# Altium footprint library Keyboard_parts.PcbLib: 22 footprints (part 2 of 2)
Each footprint in its own frame and in the unit in brackets; x right, y up, seen from the top. Pads: shape width x height; smd on the part's side, far side on the other; paste and mask are expansions set on the pad; w line width, h text height; cw(c..) or ccw(c..) is an arc to the next point about the centre after c.
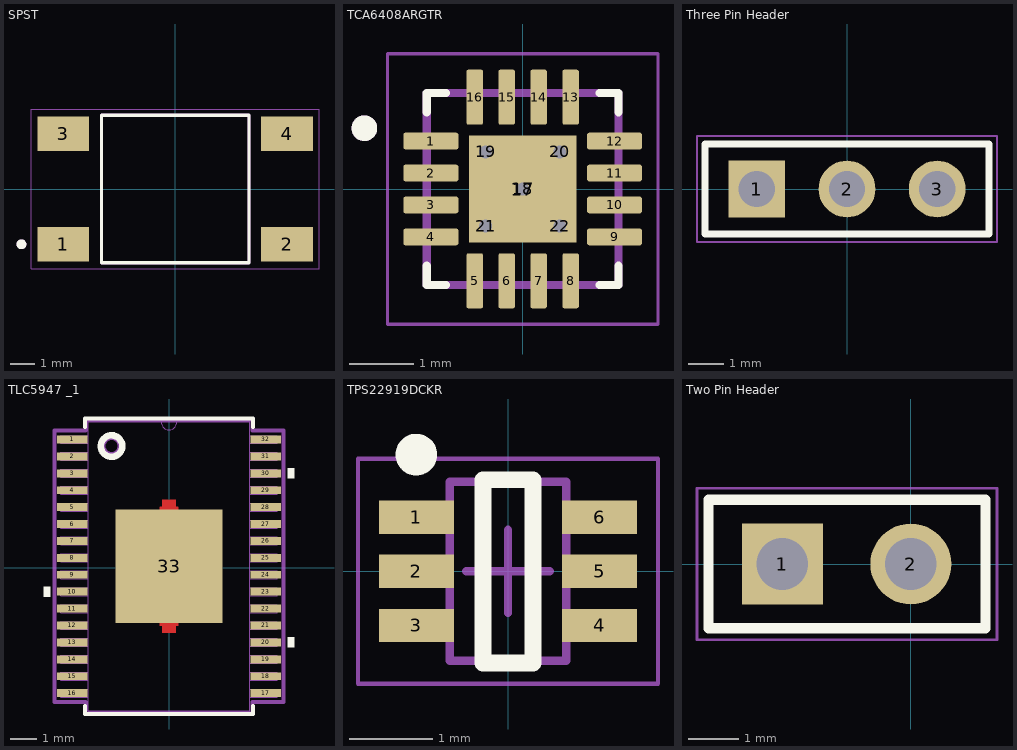
[diagram p1: the footprints below, top view; thin cyan lines are the x and y axes]

## SPST [mm]
pads (4):
  rect 2.1x1.4 smd: 1(-4.55,-2.25) 2(4.55,-2.25) 3(-4.55,2.25) 4(4.55,2.25)
Top Overlay:
  circle w0.2: c-6.25,-2.25 r0.1
  lines w0.127: -3,-3 3,-3 3,3 -3,3 -3,-3
Mechanical 13:
  circle w0.2: c-6.25,-2.25 r0.1
  lines w0.127: -3,-3 -3,3 3,3 3,-3 -3,-3
Mechanical 15:
  lines w0.05: -5.85,-3.25 -5.85,3.25 5.85,3.25 5.85,-3.25 -5.85,-3.25
3D body "step_temp.STEP": height 4.4, standoff 0, extent -5,-3 5,3

## TCA6408ARGTR [mm] "IC XPNDR 400KHZ I2C SMBUS 16VQFN"
pads (22):
  rrect25% 0.86x0.26 smd: 1(-1.435,0.75) 2(-1.435,0.25) 3(-1.435,-0.25) 4(-1.435,-0.75) 9(1.435,-0.75) 10(1.435,-0.25) 11(1.435,0.25) 12(1.435,0.75)
  rrect25% 0.26x0.86 smd: 5(-0.75,-1.435) 6(-0.25,-1.435) 7(0.25,-1.435) 8(0.75,-1.435) 13(0.75,1.435) 14(0.25,1.435) 15(-0.25,1.435) 16(-0.75,1.435)
  rect 1.68x1.68 smd paste-2: 17(0,0)
  round 0.4 hole 0.2 mask+0: 18(0,0) 19(-0.58,0.58) 20(0.58,0.58) 21(-0.58,-0.58) 22(0.58,-0.58)
Top Overlay:
  circle w0.2: c-2.475,0.95 r0.1
  lines w0.127: -1.5,-1.2 -1.5,-1.5 -1.2,-1.5 ; -1.5,1.2 -1.5,1.5 -1.2,1.5 ; 1.2,-1.5 1.5,-1.5 1.5,-1.2 ; 1.2,1.5 1.5,1.5 1.5,1.2
Top Paste:
  region: 0.53,-0.53 -0.53,-0.53 -0.53,0.53 0.53,0.53
Mechanical 13:
  circle w0.2: c-2.475,0.95 r0.1
  lines w0.127: -1.5,-1.5 1.5,-1.5 1.5,1.5 -1.5,1.5 -1.5,-1.5
  text ".Designator" at -1.4,-1.233 h0.5
Mechanical 15:
  lines w0.05: -2.115,-2.115 2.115,-2.115 2.115,2.115 -2.115,2.115 -2.115,-2.115
3D body "step_temp.STEP": height 1, standoff 0, extent -1.5,-1.5 1.5,1.5

## Three Pin Header [mm]
pads (3):
  rect 1.6x1.6 hole 1.02: 1(-2.54,0)
  round 1.6 hole 1.02: 2(0,0) 3(2.54,0)
Top Overlay:
  lines w0.2: -4,-1.27 -4,1.27 4,1.27 4,-1.27 -4,-1.27
Mechanical 13:
  lines w0.1: -4,-1.27 -4,1.27 4,1.27 4,-1.27 -4,-1.27
  text ".Designator" at -1.524,-0.635 h1.3
Mechanical 15:
  lines w0.05: -4.225,-1.495 -4.225,1.495 4.225,1.495 4.225,-1.495 -4.225,-1.495
  lines w0.1: -0.5,0 0.5,0 ; 0,-0.5 0,0.5
3D body "User Library-Header_Male_3Pin.STEP": height 8.54, standoff -3, extent -3.81,-1.27 3.81,1.22

## TLC5947 _1 [mil] "LED Driver IC 24 Output Linear Shift Register Dimming 30mA 32-HTSSOP"
pads (33):
  rect 46x12 smd paste+0 mask+0: 1(-146.5,193.93) 2(-146.5,168.34) 3(-146.5,142.75) 4(-146.5,117.16) 5(-146.5,91.57) 6(-146.5,65.98) 7(-146.5,40.39) 8(-146.5,14.8) 9(-146.5,-10.8) 10(-146.5,-36.39) 11(-146.5,-61.98) 12(-146.5,-87.57) 13(-146.5,-113.16) 14(-146.5,-138.75) 15(-146.5,-164.34) 16(-146.5,-189.93) 17(146.5,-189.93) 18(146.5,-164.34) 19(146.5,-138.75) 20(146.5,-113.16) 21(146.5,-87.57) 22(146.5,-61.98) 23(146.5,-36.39) 24(146.5,-10.8) 25(146.5,14.8) 26(146.5,40.39) 27(146.5,65.98) 28(146.5,91.57) 29(146.5,117.16) 30(146.5,142.75) 31(146.5,168.34) 32(146.5,193.93)
  rect 161.81x171.65 smd paste-433.07 mask+0: 33(0,2)
Top Layer:
  region: 13.78,-83.83 -13.78,-83.83 -13.78,-87.76 -9.84,-87.76 -9.84,-98.39 9.84,-98.39 9.84,-87.76 13.78,-87.76
  region: 13.78,87.83 -13.78,87.83 -13.78,91.76 -9.84,91.76 -9.84,102.39 9.84,102.39 9.84,91.76 13.78,91.76
Top Overlay:
  circle w10: c-87,184 r16.28
  region: 179.5,150.25 189.5,150.25 189.5,135.25 179.5,135.25
  region: 179.5,-105.66 189.5,-105.66 189.5,-120.66 179.5,-120.66
  region: -179.5,-28.89 -189.5,-28.89 -189.5,-43.89 -179.5,-43.89
  lines w6: -127,-209.03 -127,-221.5 127,-221.5 127,-209.03 ; -127,213.03 -127,225.5 127,225.5 127,213.03
Top Paste:
  region: 76.97,-30.55 30.91,-30.55 30.91,-79.89 76.97,-79.89
  region: 76.97,26.67 30.91,26.67 30.91,-22.67 76.97,-22.67
  region: 76.97,83.89 30.91,83.89 30.91,34.55 76.97,34.55
  region: 23.03,-30.55 -23.03,-30.55 -23.03,-79.89 23.03,-79.89
  region: 23.03,26.67 -23.03,26.67 -23.03,-22.67 23.03,-22.67
  region: 23.03,83.89 -23.03,83.89 -23.03,34.55 23.03,34.55
  region: -30.91,-30.55 -76.97,-30.55 -76.97,-79.89 -30.91,-79.89
  region: -30.91,26.67 -76.97,26.67 -76.97,-22.67 -30.91,-22.67
  region: -30.91,83.89 -76.97,83.89 -76.97,34.55 -30.91,34.55
Top Solder:
  region: 13.78,-83.83 -13.78,-83.83 -13.78,-87.76 -9.84,-87.76 -9.84,-98.39 9.84,-98.39 9.84,-87.76 13.78,-87.76
  region: 13.78,87.83 -13.78,87.83 -13.78,91.76 -9.84,91.76 -9.84,102.39 9.84,102.39 9.84,91.76 13.78,91.76
Mechanical 13:
  circle w10: c-87,184 r14.21
  lines w0: -12,220.5 ccw(c0,220.5) 12,220.5
  lines w1: -163.5,-195.93 -122,-195.93 -122,-183.93 -163.5,-183.93 -163.5,-195.93 ; -163.5,-170.34 -122,-170.34 -122,-158.34 -163.5,-158.34 -163.5,-170.34 ; -163.5,-144.75 -122,-144.75 -122,-132.75 -163.5,-132.75 -163.5,-144.75 ; -163.5,-119.16 -122,-119.16 -122,-107.16 -163.5,-107.16 -163.5,-119.16 ; -163.5,-93.57 -122,-93.57 -122,-81.57 -163.5,-81.57 -163.5,-93.57 ; -163.5,-67.98 -122,-67.98 -122,-55.98 -163.5,-55.98 -163.5,-67.98 ; -163.5,-42.39 -122,-42.39 -122,-30.39 -163.5,-30.39 -163.5,-42.39 ; -163.5,-16.8 -122,-16.8 -122,-4.8 -163.5,-4.8 -163.5,-16.8 ; -163.5,8.8 -122,8.8 -122,20.8 -163.5,20.8 -163.5,8.8 ; -163.5,34.39 -122,34.39 -122,46.39 -163.5,46.39 -163.5,34.39 ; -163.5,59.98 -122,59.98 -122,71.98 -163.5,71.98 -163.5,59.98 ; -163.5,85.57 -122,85.57 -122,97.57 -163.5,97.57 -163.5,85.57 ; -163.5,111.16 -122,111.16 -122,123.16 -163.5,123.16 -163.5,111.16 ; -163.5,136.75 -122,136.75 -122,148.75 -163.5,148.75 -163.5,136.75 ; -163.5,162.34 -122,162.34 -122,174.34 -163.5,174.34 -163.5,162.34 ; -163.5,187.93 -122,187.93 -122,199.93 -163.5,199.93 -163.5,187.93 ; -122,-216.5 -122,220.5 122,220.5 122,-216.5 -122,-216.5 ; 122,-195.93 163.5,-195.93 163.5,-183.93 122,-183.93 122,-195.93 ; 122,-170.34 163.5,-170.34 163.5,-158.34 122,-158.34 122,-170.34 ; 122,-144.75 163.5,-144.75 163.5,-132.75 122,-132.75 122,-144.75 ; 122,-119.16 163.5,-119.16 163.5,-107.16 122,-107.16 122,-119.16 ; 122,-93.57 163.5,-93.57 163.5,-81.57 122,-81.57 122,-93.57 ; 122,-67.98 163.5,-67.98 163.5,-55.98 122,-55.98 122,-67.98 ; 122,-42.39 163.5,-42.39 163.5,-30.39 122,-30.39 122,-42.39 ; 122,-16.8 163.5,-16.8 163.5,-4.8 122,-4.8 122,-16.8 ; 122,8.8 163.5,8.8 163.5,20.8 122,20.8 122,8.8 ; 122,34.39 163.5,34.39 163.5,46.39 122,46.39 122,34.39 ; 122,59.98 163.5,59.98 163.5,71.98 122,71.98 122,59.98 ; 122,85.57 163.5,85.57 163.5,97.57 122,97.57 122,85.57 ; 122,111.16 163.5,111.16 163.5,123.16 122,123.16 122,111.16 ; 122,136.75 163.5,136.75 163.5,148.75 122,148.75 122,136.75 ; 122,162.34 163.5,162.34 163.5,174.34 122,174.34 122,162.34 ; 122,187.93 163.5,187.93 163.5,199.93 122,199.93 122,187.93
  text ".Designator" at -118.06,-202.07 h31.5
Mechanical 15:
  lines w3.94: -39,0 39,0 ; 0,-20 0,19
  lines w6: -173.5,-203.53 -126,-203.53 -126,-220.5 126,-220.5 126,-203.53 173.5,-203.53 173.5,207.53 126,207.53 126,224.5 -126,224.5 -126,207.53 -173.5,207.53 -173.5,-203.53
3D body "DAP32_4P36X4P11.step": height 67.09, standoff 0, extent -163.5,-216.5 163.5,220.5

## TPS22919DCKR [mm] "Power Switch/Driver 1:1 N-Channel 1.5A SC-70-6, 5.5 V, 1.5 A, 90-mΩ Self-Protected Load Switch with Controlled Rise Time"
pads (6):
  rect 0.9x0.4 smd mask+0.07: 1(-1.1,0.65) 2(-1.1,0) 3(-1.1,-0.65) 4(1.1,-0.65) 5(1.1,0) 6(1.1,0.65)
Top Overlay:
  circle w0.25: c-1.1,1.4 r0.125
  lines w0.2: -0.3,-1.1 0.3,-1.1 0.3,1.1 -0.3,1.1 -0.3,-1.1
Mechanical 13:
  lines w0.1: -0.7,-1.075 -0.7,1.075 0.7,1.075 0.7,-1.075 -0.7,-1.075
  text ".Designator" at -0.6,-0.808 h0.5
Mechanical 15:
  lines w0.05: -1.8,-1.35 -1.8,1.35 1.8,1.35 1.8,-1.35 -1.8,-1.35
  lines w0.1: -0.5,0 0.5,0 ; 0,-0.5 0,0.5
3D body "SOT65P200X110-6N.step": height 1.1, standoff 0, extent -1.2,-1.075 1.2,1.075

## Two Pin Header [mm]
pads (2):
  rect 1.6x1.6 hole 1.02: 1(-2.54,0)
  round 1.6 hole 1.02: 2(0,0)
Top Overlay:
  lines w0.2: -4,-1.27 1.473,-1.27 1.473,1.27 -4,1.27 -4,-1.27
Mechanical 13:
  lines w0.1: -4,-1.27 1.473,-1.27 1.473,1.27 -4,1.27 -4,-1.27
  text ".Designator" at -1.524,-0.635 h1.3
Mechanical 15:
  lines w0.05: -4.225,-1.495 1.702,-1.495 1.702,1.495 -4.225,1.495 -4.225,-1.495
  lines w0.1: -0.5,0 0.5,0 ; 0,-0.5 0,0.5